# EAGLE library part DEBUG-MINISMPL (library jetney-silabs-modules)
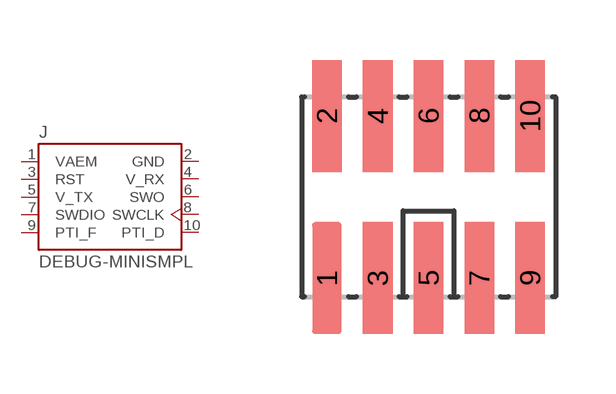
[diagram p30: symbol with the pads of DEBUG-50MIL; footprint DEBUG-50MIL]

Designator prefix J

## DEBUG-MINISMPL  [DEBUG-50MIL]
1  VAEM  pwr
2  GND  pwr
3  RST  out
4  V_RX  out
5  V_TX
6  SWO  out
7  SWDIO
8  SWCLK
9  PTI_F  out
10  PTI_D

## Footprint DEBUG-50MIL (pad centres in mm)
CC debugger connection using 0.05-inch pitch header. Package design from "pretty-eagle-libs" at https://github.com/esden/pretty-eagle-libs/blob/master/pel_misc.lbr by @esden at Github. (CC-BY-SA-3.0) https://github.com/jrowberg/sf-oshw Last updated 2014-01-04 by Jeff Rowberg <jeff@rowberg.net>
smd 0.74 x 2.8: 1 -2.54,-2.03; 2 -2.54,2.03; 3 -1.27,-2.03; 4 -1.27,2.03; 5 0,-2.03; 6 0,2.03; 7 1.27,-2.03; 8 1.27,2.03; 9 2.54,-2.03; 10 2.54,2.03